# Altium footprint library Standard_PIN.PcbLib: 23 footprints (part 2 of 2)
Each footprint in its own frame and in the unit in brackets; x right, y up, seen from the top. Pads: shape width x height; smd on the part's side, far side on the other; paste and mask are expansions set on the pad; w line width, h text height; cw(c..) or ccw(c..) is an arc to the next point about the centre after c.
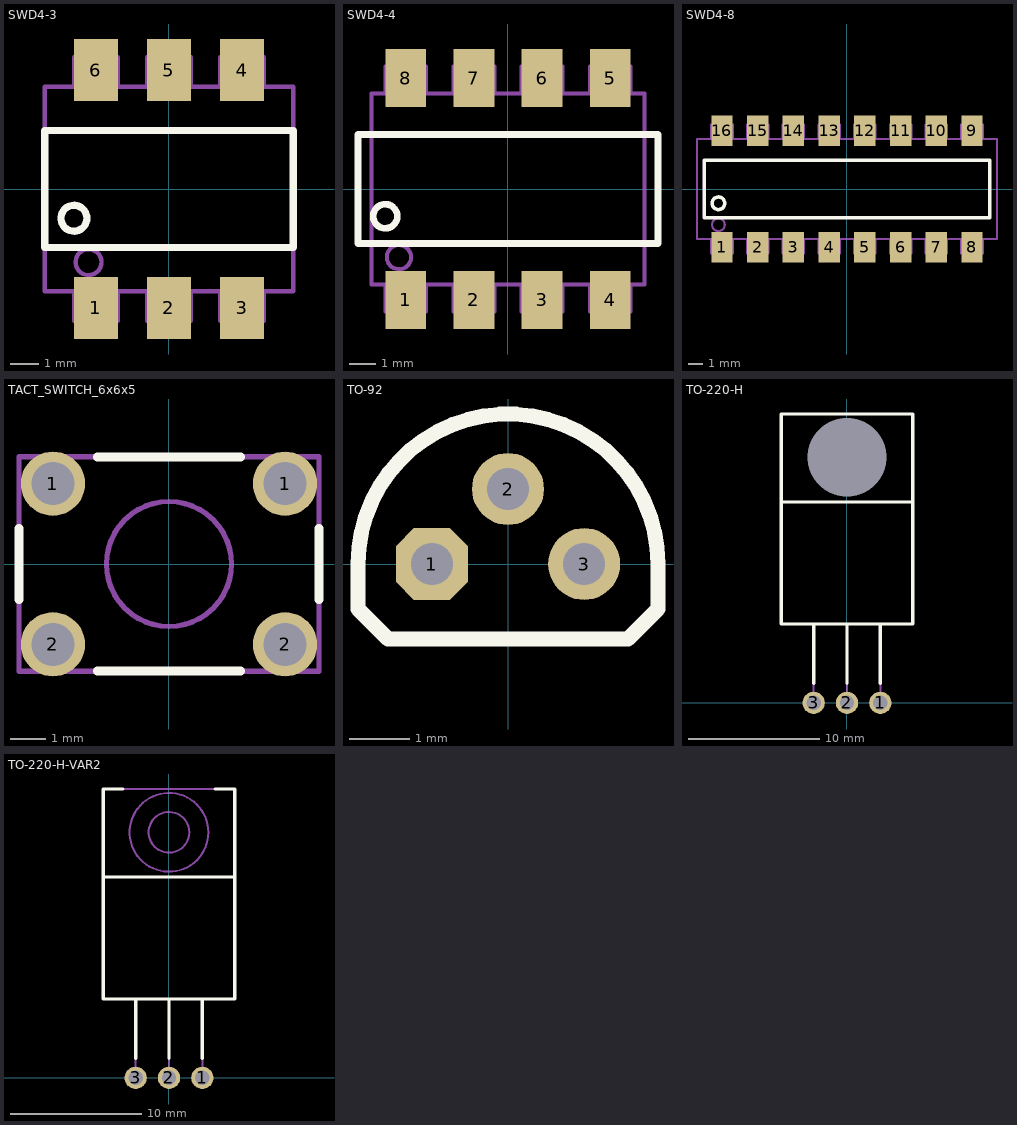
[diagram p1: the footprints below, top view; thin cyan lines are the x and y axes]

## SWD4-3 [mm]
pads (6):
  rect 1.52x2.16 smd: 1(-2.54,-4.13) 2(0,-4.13) 3(2.54,-4.13) 4(2.54,4.13) 5(0,4.13) 6(-2.54,4.13)
Top Overlay:
  circle w0.25: c-3.302,-1.016 r0.45
  lines w0.25: -4.318,-2.032 4.318,-2.032 4.318,2.032 -4.318,2.032 -4.318,-2.032
Top Assembly:
  circle w0.15: c-2.794,-2.54 r0.45
  lines w0.15: -4.318,-3.556 4.318,-3.556 4.318,3.556 -4.318,3.556 -4.318,-3.556 ; -3.302,-4.572 -1.778,-4.572 -1.778,-3.556 -3.302,-3.556 -3.302,-4.572 ; -3.302,3.556 -1.778,3.556 -1.778,4.572 -3.302,4.572 -3.302,3.556 ; -2.794,-5.08 -2.286,-5.08 -2.286,-4.572 -2.794,-4.572 -2.794,-5.08 ; -2.794,4.572 -2.286,4.572 -2.286,5.08 -2.794,5.08 -2.794,4.572 ; -0.762,-4.572 0.762,-4.572 0.762,-3.556 -0.762,-3.556 -0.762,-4.572 ; -0.762,3.556 0.762,3.556 0.762,4.572 -0.762,4.572 -0.762,3.556 ; -0.254,-5.08 0.254,-5.08 0.254,-4.572 -0.254,-4.572 -0.254,-5.08 ; -0.254,4.572 0.254,4.572 0.254,5.08 -0.254,5.08 -0.254,4.572 ; 1.778,-4.572 3.302,-4.572 3.302,-3.556 1.778,-3.556 1.778,-4.572 ; 1.778,3.556 3.302,3.556 3.302,4.572 1.778,4.572 1.778,3.556 ; 2.286,-5.08 2.794,-5.08 2.794,-4.572 2.286,-4.572 2.286,-5.08 ; 2.286,4.572 2.794,4.572 2.794,5.08 2.286,5.08 2.286,4.572
3D body "SMD DIP SWITCH 3P.step": height 4.36, standoff 0.04, extent -4.28,-4.9 4.28,4.9

## SWD4-4 [mm]
pads (8):
  rect 1.52x2.16 smd: 1(-3.81,-4.13) 2(-1.27,-4.13) 3(1.27,-4.13) 4(3.81,-4.13) 5(3.81,4.13) 6(1.27,4.13) 7(-1.27,4.13) 8(-3.81,4.13)
Top Overlay:
  circle w0.25: c-4.572,-1.016 r0.45
  lines w0.25: -5.588,-2.032 5.588,-2.032 5.588,2.032 -5.588,2.032 -5.588,-2.032
Top Assembly:
  circle w0.15: c-4.064,-2.54 r0.45
  lines w0.15: -5.08,-3.556 5.08,-3.556 5.08,3.556 -5.08,3.556 -5.08,-3.556 ; -4.572,-4.572 -3.048,-4.572 -3.048,-3.556 -4.572,-3.556 -4.572,-4.572 ; -4.572,3.556 -3.048,3.556 -3.048,4.572 -4.572,4.572 -4.572,3.556 ; -4.064,-5.08 -3.556,-5.08 -3.556,-4.572 -4.064,-4.572 -4.064,-5.08 ; -4.064,4.572 -3.556,4.572 -3.556,5.08 -4.064,5.08 -4.064,4.572 ; -2.032,-4.572 -0.508,-4.572 -0.508,-3.556 -2.032,-3.556 -2.032,-4.572 ; -2.032,3.556 -0.508,3.556 -0.508,4.572 -2.032,4.572 -2.032,3.556 ; -1.524,-5.08 -1.016,-5.08 -1.016,-4.572 -1.524,-4.572 -1.524,-5.08 ; -1.524,4.572 -1.016,4.572 -1.016,5.08 -1.524,5.08 -1.524,4.572 ; 0.508,-4.572 2.032,-4.572 2.032,-3.556 0.508,-3.556 0.508,-4.572 ; 0.508,3.556 2.032,3.556 2.032,4.572 0.508,4.572 0.508,3.556 ; 1.016,-5.08 1.524,-5.08 1.524,-4.572 1.016,-4.572 1.016,-5.08 ; 1.016,4.572 1.524,4.572 1.524,5.08 1.016,5.08 1.016,4.572 ; 3.048,-4.572 4.572,-4.572 4.572,-3.556 3.048,-3.556 3.048,-4.572 ; 3.048,3.556 4.572,3.556 4.572,4.572 3.048,4.572 3.048,3.556 ; 3.556,-5.08 4.064,-5.08 4.064,-4.572 3.556,-4.572 3.556,-5.08 ; 3.556,4.572 4.064,4.572 4.064,5.08 3.556,5.08 3.556,4.572
3D body "SMD DIP SWITCH 4P.step": height 4.36, standoff 0.04, extent -5.55,-4.9 5.55,4.9

## SWD4-8 [mm]
pads (16):
  rect 1.52x2.16 smd: 1(-8.89,-4.13) 2(-6.35,-4.13) 3(-3.81,-4.13) 4(-1.27,-4.13) 5(1.27,-4.13) 6(3.81,-4.13) 7(6.35,-4.13) 8(8.89,-4.13) 9(8.89,4.13) 10(6.35,4.13) 11(3.81,4.13) 12(1.27,4.13) 13(-1.27,4.13) 14(-3.81,4.13) 15(-6.35,4.13) 16(-8.89,4.13)
Top Overlay:
  circle w0.25: c-9.144,-1.016 r0.45
  lines w0.25: -10.16,-2.032 10.16,-2.032 10.16,2.032 -10.16,2.032 -10.16,-2.032
Top Assembly:
  circle w0.15: c-9.144,-2.54 r0.45
  lines w0.15: -10.668,-3.556 10.668,-3.556 10.668,3.556 -10.668,3.556 -10.668,-3.556 ; -9.652,-4.572 -8.128,-4.572 -8.128,-3.556 -9.652,-3.556 -9.652,-4.572 ; -9.652,3.556 -8.128,3.556 -8.128,4.572 -9.652,4.572 -9.652,3.556 ; -9.144,-5.08 -8.636,-5.08 -8.636,-4.572 -9.144,-4.572 -9.144,-5.08 ; -9.144,4.572 -8.636,4.572 -8.636,5.08 -9.144,5.08 -9.144,4.572 ; -7.112,-4.572 -5.588,-4.572 -5.588,-3.556 -7.112,-3.556 -7.112,-4.572 ; -7.112,3.556 -5.588,3.556 -5.588,4.572 -7.112,4.572 -7.112,3.556 ; -6.604,-5.08 -6.096,-5.08 -6.096,-4.572 -6.604,-4.572 -6.604,-5.08 ; -6.604,4.572 -6.096,4.572 -6.096,5.08 -6.604,5.08 -6.604,4.572 ; -4.572,-4.572 -3.048,-4.572 -3.048,-3.556 -4.572,-3.556 -4.572,-4.572 ; -4.572,3.556 -3.048,3.556 -3.048,4.572 -4.572,4.572 -4.572,3.556 ; -4.064,-5.08 -3.556,-5.08 -3.556,-4.572 -4.064,-4.572 -4.064,-5.08 ; -4.064,4.572 -3.556,4.572 -3.556,5.08 -4.064,5.08 -4.064,4.572 ; -2.032,-4.572 -0.508,-4.572 -0.508,-3.556 -2.032,-3.556 -2.032,-4.572 ; -2.032,3.556 -0.508,3.556 -0.508,4.572 -2.032,4.572 -2.032,3.556 ; -1.524,-5.08 -1.016,-5.08 -1.016,-4.572 -1.524,-4.572 -1.524,-5.08 ; -1.524,4.572 -1.016,4.572 -1.016,5.08 -1.524,5.08 -1.524,4.572 ; 0.508,-4.572 2.032,-4.572 2.032,-3.556 0.508,-3.556 0.508,-4.572 ; 0.508,3.556 2.032,3.556 2.032,4.572 0.508,4.572 0.508,3.556 ; 1.016,-5.08 1.524,-5.08 1.524,-4.572 1.016,-4.572 1.016,-5.08 ; 1.016,4.572 1.524,4.572 1.524,5.08 1.016,5.08 1.016,4.572 ; 3.048,-4.572 4.572,-4.572 4.572,-3.556 3.048,-3.556 3.048,-4.572 ; 3.048,3.556 4.572,3.556 4.572,4.572 3.048,4.572 3.048,3.556 ; 3.556,-5.08 4.064,-5.08 4.064,-4.572 3.556,-4.572 3.556,-5.08 ; 3.556,4.572 4.064,4.572 4.064,5.08 3.556,5.08 3.556,4.572 ; 5.588,-4.572 7.112,-4.572 7.112,-3.556 5.588,-3.556 5.588,-4.572 ; 5.588,3.556 7.112,3.556 7.112,4.572 5.588,4.572 5.588,3.556 ; 6.096,-5.08 6.604,-5.08 6.604,-4.572 6.096,-4.572 6.096,-5.08 ; 6.096,4.572 6.604,4.572 6.604,5.08 6.096,5.08 6.096,4.572 ; 8.128,-4.572 9.652,-4.572 9.652,-3.556 8.128,-3.556 8.128,-4.572 ; 8.128,3.556 9.652,3.556 9.652,4.572 8.128,4.572 8.128,3.556 ; 8.636,-5.08 9.144,-5.08 9.144,-4.572 8.636,-4.572 8.636,-5.08 ; 8.636,4.572 9.144,4.572 9.144,5.08 8.636,5.08 8.636,4.572
3D body "SMD DIP SWITCH 8P.step": height 4.36, standoff 0.04, extent -10.63,-4.9 10.63,4.9

## TACT_SWITCH_6x6x5 [mm]
pads (4):
  round 1.8 hole 1.2: 1(-3.25,2.25) 1(3.25,2.25) 2(-3.25,-2.25) 2(3.25,-2.25)
Top Overlay:
  lines w0.25: -4.2,-1 -4.2,1 ; -2,-3 2,-3 ; -2,3 2,3 ; 4.2,-1 4.2,1
Top Assembly:
  circle w0.15: c0,0 r1.75
  lines w0.15: -4.2,-3 4.2,-3 4.2,3 -4.2,3 -4.2,-3
3D body "Tactal Switch -Thru (6mmx 6mmx5.0mm).stp": height 5, standoff -3.18, extent -4.176,-2.997 4.176,2.997

## TO-92 [mm]
pads (3):
  oct 1.2x1.2 hole 0.7: 1(-1.27,0)
  round 1.2 hole 0.7: 2(0,1.25) 3(1.27,0)
Top Overlay:
  lines w0.25: -2.5,-0.75 -2,-1.25 2,-1.25 2.5,-0.75 2.5,-0.5 2.5,0 ccw(c0,0) -2.5,0 -2.5,-0.5 -2.5,-0.75
Top Assembly:
  lines w0.15: -2.5,-0.75 -2.5,-0.5 -2.5,0 cw(c0,0) 2.5,0 2.5,-0.5 2.5,-0.75 2,-1.25 -2,-1.25 -2.5,-0.75
3D body "TO-92-2.step": height 8.5, standoff -4, extent -2.5,-0.2 2.5,3.77

## TO-220-H [mm]
pads (4):
  round 1.7 hole 1.1: 1(2.54,0) 2(0,0) 3(-2.54,0)
  round 0 hole 6 unplated: 16(0,18.7)
Top Overlay:
  lines w0.25: -5,15.3 5,15.3 ; -2.54,1.5 -2.54,6 ; 0,1.5 0,6 ; 2.54,1.5 2.54,5.96 ; -5,6 5,6 5,22 -5,22 -5,6
Top Assembly:
  circle w0.15: c0,18.7 r1.55
  lines w0.15: -5,15.3 5,15.3 ; -2.54,0 -2.54,6 ; 0,0 0,6 ; 2.5,6 2.54,5.96 2.54,0 ; -5,6 5,6 5,22 -5,22 -5,6
3D body "ITO-220AB (HE)_Normal_rev1.1.STEP": height 4.81, standoff 0.11, extent -5.1,-0.95 5.06,21.95

## TO-220-H-VAR2 [mm]
pads (3):
  round 1.7 hole 1.1: 1(2.54,0) 2(0,0) 3(-2.54,0)
Top Overlay:
  lines w0.25: -5,15.3 5,15.3 ; -3.5,22 -5,22 -5,6 5,6 5,22 3.5,22 ; -2.54,1.5 -2.54,6 ; 0,1.5 0,6 ; 2.54,1.5 2.54,5.96
Mechanical 1:
  circle w0.15: c0,18.7 r3
Top Assembly:
  circle w0.15: c0,18.7 r1.55
  lines w0.15: -5,15.3 5,15.3 ; -2.54,0 -2.54,6 ; 0,0 0,6 ; 2.5,6 2.54,5.96 2.54,0 ; -5,6 5,6 5,22 -5,22 -5,6
3D body "ITO-220AB (HE)_Normal_rev1.1.STEP": height 4.81, standoff 0.11, extent -5.1,-0.95 5.06,21.95